# Altium integrated library TSM260P02CX_RFG.IntLib: 1 symbol
Pins are listed as number, name and electrical type; pins without a type are passive.

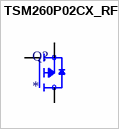
[diagram p0: symbol TSM260P02CX_RFG]

## TSM260P02CX_RFG
designator Q?
-20V, -6.5A, Single P-Channel Power MOSFET; MF: Taiwan Semiconductor; MP: TSM260P02CX RFG; Value: *; Purchase-URL: https://pricing.snapeda.com/search/part/TSM260P02CX RFG/?ref=eda; Package: SOT-23-3 Taiwan Semiconductor; Check_prices: https://www.snapeda.com/parts/TSM260P02CX%20RFG/Taiwan+Semiconductor/view-part/?ref=eda; SnapEDA_Link: https://www.snapeda.com/parts/TSM260P02CX%20RFG/Taiwan+Semiconductor/view-part/?ref=snap; Price: None; Availability: In Stock
footprint TRANS_TSM260P02CX_RFG
pins: 1 G, 2 S, 3 D